# Altium schematic symbol library Components - 20.10.22 - 00.24.SchLib: 1 symbol
Pins are listed as number, name and electrical type; pins without a type are passive.

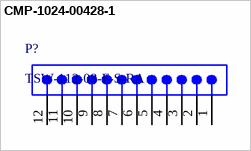
[diagram p0: symbol CMP-1024-00428-1]

## CMP-1024-00428-1
designator P?, comment TSW-112-08-F-S-RA
0.025" SQ Post Header, Through-hole, Right Angle, -55 to 125 degC, 2.54 mm Pitch, 12-Pin, Male, RoHS; Manufacturer: Samtec; Pitch: 2.54 mm; ComponentLink2URL: http://www.samtec.com/documents/webfiles/pdf/TSW_TH.PDF; ComponentLink2Description: Datasheet; PartNumber: TSW-112-08-F-S-RA; ComponentLink3Description: Package Specification; DatasheetVersion: F-214; PackageReference: TSW-112-08-X-S-RA; PackageVersion: DM, 8/1988; Temperature Range: -55 to 125 degC; Mounting Technology: Through-hole; ComponentLink1Description: Manufacturer URL; RoHS: True; Orientation: Right Angle; ComponentLink1URL: http://www.samtec.com; ComponentLink3URL: http://www.samtec.com/documents/webfiles/cpdf/TSW-XXX-XX-XXX-X-XX-XXX-MKT.pdf; PackageDescription: .025[0.64] SQ. Post Terminal Strip Assembly
footprint SMTC-TSW-112-08-X-S-RA (.025 SQ Post Terminal Strip Assembly, 1x12 Pins, Right Angle, 2.54mm Pitch, Male)
pins: 1, 2, 3, 4, 5, 6, 7, 8, 9, 10, 11, 12